# EAGLE library part 2PH2-10-UA (library ruark2)
Connector Header Through Hole 10 position 0.079" (2.00mm)
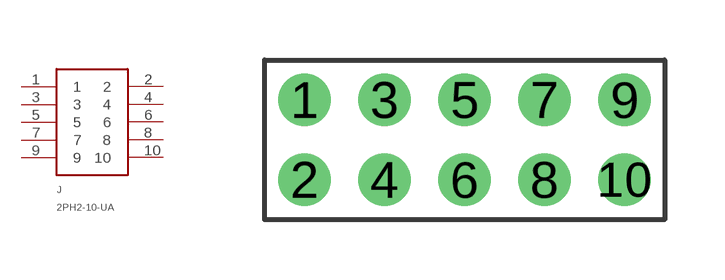
[diagram p134: symbol with the pads of 2PH2-10-UA; footprint 2PH2-10-UA]

Designator prefix J

## 2PH2-10-UA (PARTNO: 2057-2PH2-10-UA-ND)  [2PH2-10-UA]
1  1
2  2
3  3
4  4
5  5
6  6
7  7
8  8
9  9
10  10

## Footprint 2PH2-10-UA (pad centres in mm)
drill 0.8: 1 -4,1; 2 -4,-1; 3 -2,1; 4 -2,-1; 5 0,1; 6 0,-1; 7 2,1; 8 2,-1; 9 4,1; 10 4,-1